# Altium footprint library Handheld.PcbLib: 77 footprints (part 3 of 5)
Each footprint in its own frame and in the unit in brackets; x right, y up, seen from the top. Pads: shape width x height; smd on the part's side, far side on the other; paste and mask are expansions set on the pad; w line width, h text height; cw(c..) or ccw(c..) is an arc to the next point about the centre after c.
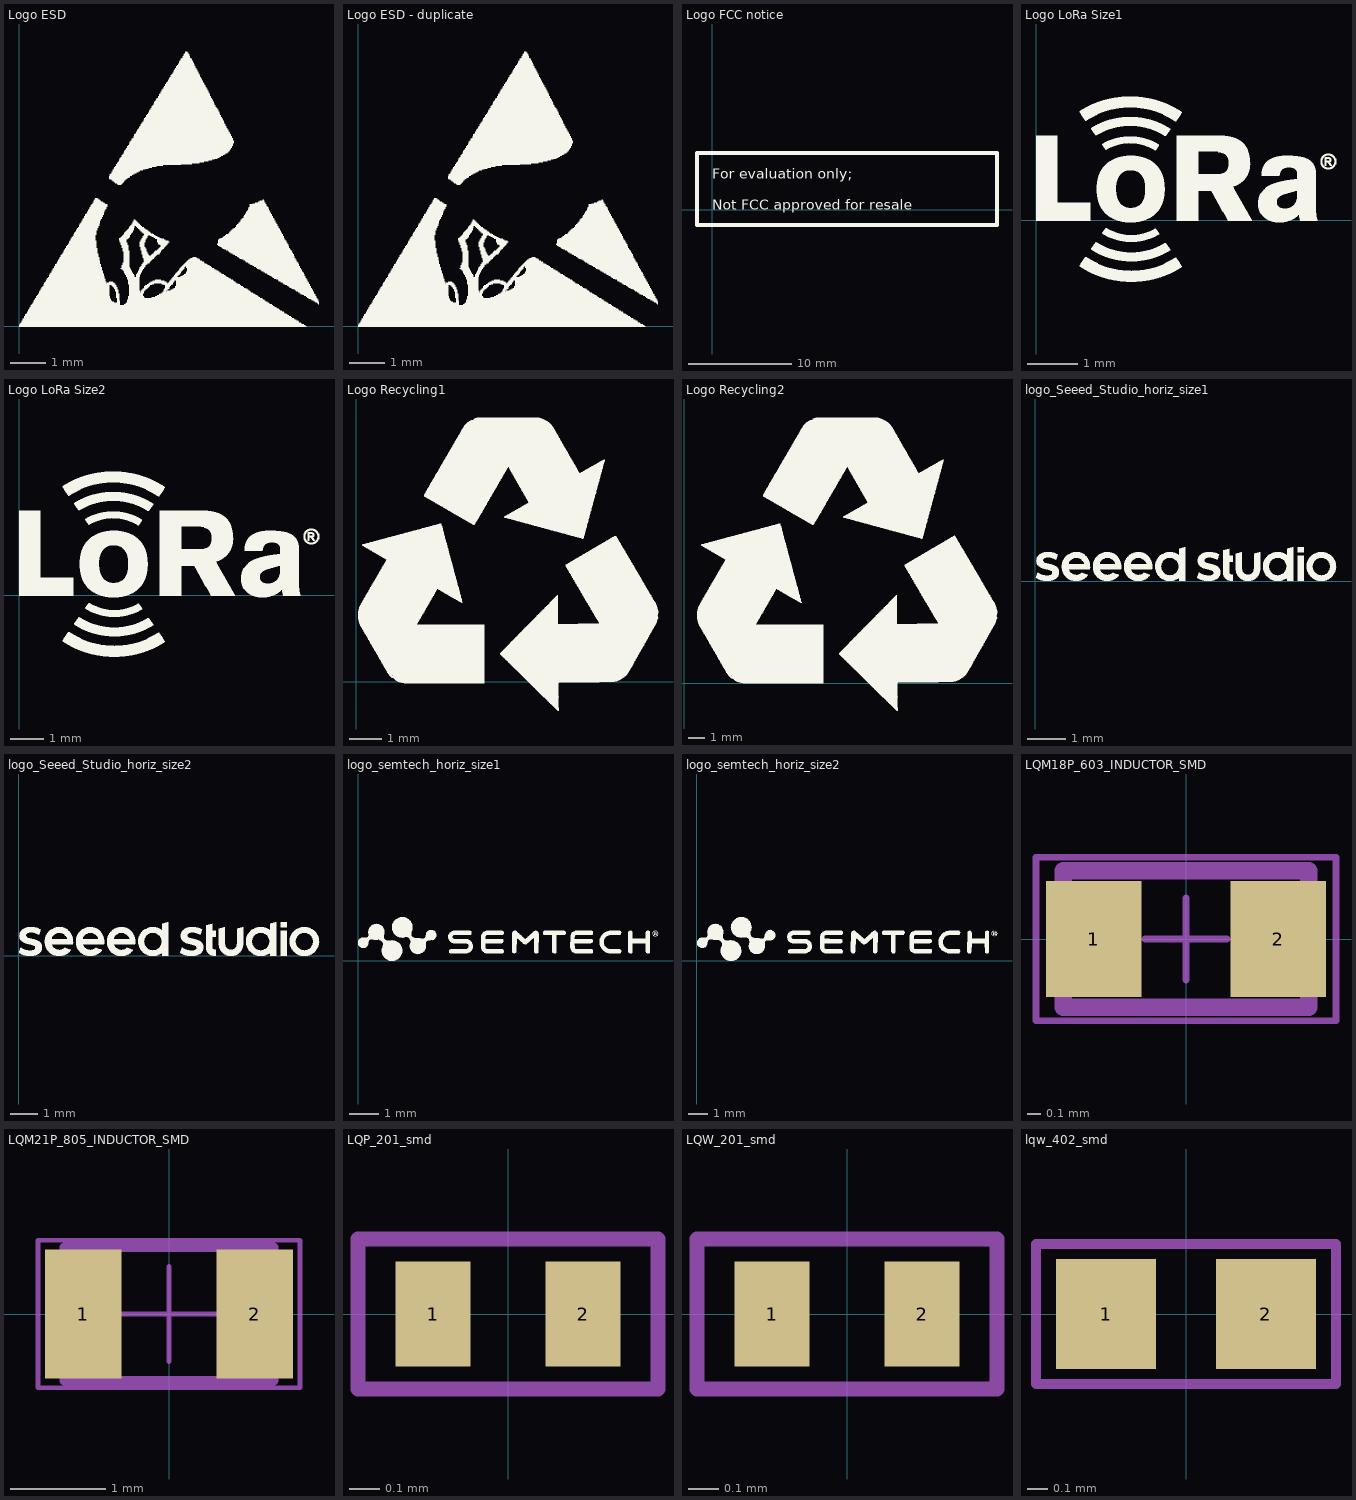
[diagram p2: the footprints below, top view; thin cyan lines are the x and y axes]

## Logo ESD [mm] "Logo ESD"
height 0.1
Top Overlay:
  drawing of 682 lines, arcs and shapes, not listed

## Logo ESD - duplicate [mm] "Logo ESD"
height 0.1
Top Overlay:
  drawing of 682 lines, arcs and shapes, not listed

## Logo FCC notice [mm] "Logo FCC notice"
height 0.1
Top Overlay:
  lines w0.4: -1.5,-1.5 -1.5,5.5 27.7,5.5 27.7,-1.5 -1.5,-1.5
  text "For evaluation only;" at 0,3 h1
  text "Not FCC approved for resale" at 0,0 h1

## Logo LoRa Size1 [mm] "Logo LoRa Size1 - Top Overlay - 6x4mm - Registered"
Top Overlay:
  drawing of 1298 lines, arcs and shapes, not listed

## Logo LoRa Size2 [mm] "Logo LoRa Size2 - Top Overlay - 9x5.5mm - Registered"
Top Overlay:
  drawing of 1298 lines, arcs and shapes, not listed

## Logo Recycling1 [mm] "Logo Recycling1"
height 0.1
Top Overlay:
  drawing of 3302 lines, arcs and shapes, not listed
3D body: height 10, standoff 1, extent -0.05,-0.05 0.05,0.05

## Logo Recycling2 [mm] "Logo Recycling2"
height 0.1
Top Overlay:
  drawing of 3309 lines, arcs and shapes, not listed
3D body: height 10, standoff 1, extent -0.05,-0.05 0.05,0.05

## logo_Seeed_Studio_horiz_size1 [mm] "Logo Seeed Studio horizontal - size1 - S"
Top Overlay:
  drawing of 12 lines, arcs and shapes, not listed

## logo_Seeed_Studio_horiz_size2 [mm] "Logo Seeed Studio horizontal - size2 - M"
Top Overlay:
  drawing of 12 lines, arcs and shapes, not listed
3D body: height 0, standoff 0, extent 0.3,0.3 0.7,0.7

## logo_semtech_horiz_size1 [mm] "Logo semtech horizontal - size1 - S"
Top Overlay:
  drawing of 11 lines, arcs and shapes, not listed
3D body: height 0, standoff 0, extent 0.6,0.5 1,0.9

## logo_semtech_horiz_size2 [mm] "Logo semtech horizontal - size2 - M"
Top Overlay:
  drawing of 11 lines, arcs and shapes, not listed
3D body: height 0, standoff 0, extent 0.7,0.7 1.1,1.1

## LQM18P_603_INDUCTOR_SMD [mm] "LQM18P CHIP COIL INDUCTOR for Consumer equipment & Industrial equipment - 0603 Package size"
height 0.9
pads (2):
  rect 0.7x0.85 smd paste+0 mask+0.05: 1(-0.675,0) 2(0.675,0)
Mechanical 13:
  lines w0.127: -0.9,-0.5 0.9,-0.5 0.9,0.5 -0.9,0.5 -0.9,-0.5
Mechanical 15:
  lines w0.05: -1.1,-0.6 1.1,-0.6 1.1,0.6 -1.1,0.6 -1.1,-0.6
Top Component Center:
  lines w0.05: -0.3,0 0.3,0 ; 0,-0.3 0,0.3
3D body "LQM18PN2R2MFHD.STEP": height 0.95, standoff 0, extent -0.8,-0.4 0.8,0.4

## LQM21P_805_INDUCTOR_SMD [mm] "LQM21P CHIP COIL INDUCTOR for Consumer equipment & Industrial equipment - 0805 Package size"
height 1
pads (2):
  rect 0.8x1.35 smd paste+0 mask+0: 1(-0.9,0) 2(0.9,0)
Mechanical 13:
  lines w0.1: -1.1,-0.7 1.1,-0.7 1.1,0.7 -1.1,0.7 -1.1,-0.7
Mechanical 15:
  lines w0.05: -1.375,-0.775 -1.375,0.775 1.375,0.775 1.375,-0.775 -1.375,-0.775
Top Component Center:
  lines w0.05: -0.5,0 0.5,0 ; 0,-0.5 0,0.5
3D body "MLZ2012E4R7P.STEP": height 1.05, standoff 0, extent -1,-0.625 1,0.625

## LQP_201_smd [mm] "Chip SMD component 201; Body 0.6 x 0.3 mm (LxW typ); small footprint"
height 0.3
pads (2):
  rect 0.25x0.35 smd paste+0 mask+0.025: 1(-0.25,0) 2(0.25,0)
Mechanical 15:
  lines w0.05: -0.5,-0.25 -0.5,0.25 0.5,0.25 0.5,-0.25 -0.5,-0.25
3D body "LQP03TN.STEP": height 0.33, standoff 0, extent -0.3,-0.15 0.3,0.15

## LQW_201_smd [mm] "Chip SMD component 201; Body 0.6 x 0.3 mm (LxW typ); small footprint"
height 0.3
pads (2):
  rect 0.25x0.35 smd paste+0 mask+0.025: 1(-0.25,0) 2(0.25,0)
Mechanical 15:
  lines w0.05: -0.5,-0.25 -0.5,0.25 0.5,0.25 0.5,-0.25 -0.5,-0.25
3D body "LQW03.STEP": height 0.45, standoff 0, extent -0.265,-0.2 0.265,0.2

## lqw_402_smd [mm] "Chip SMD component 402; Body 1.0 x 0.5 mm (LxW typ);small footprint"
height 0.8
pads (2):
  rect 0.5x0.55 smd mask+0.025: 1(-0.4,0) 2(0.4,0)
Mechanical 15:
  lines w0.05: -0.75,-0.35 0.75,-0.35 0.75,0.35 -0.75,0.35 -0.75,-0.35
3D body "LQW15.STEP": height 0.6, standoff 0, extent -0.5,-0.3 0.5,0.3